# Altium schematic symbol library Supply.SchLib: 13 symbols
Pins are listed as number, name and electrical type; pins without a type are passive.

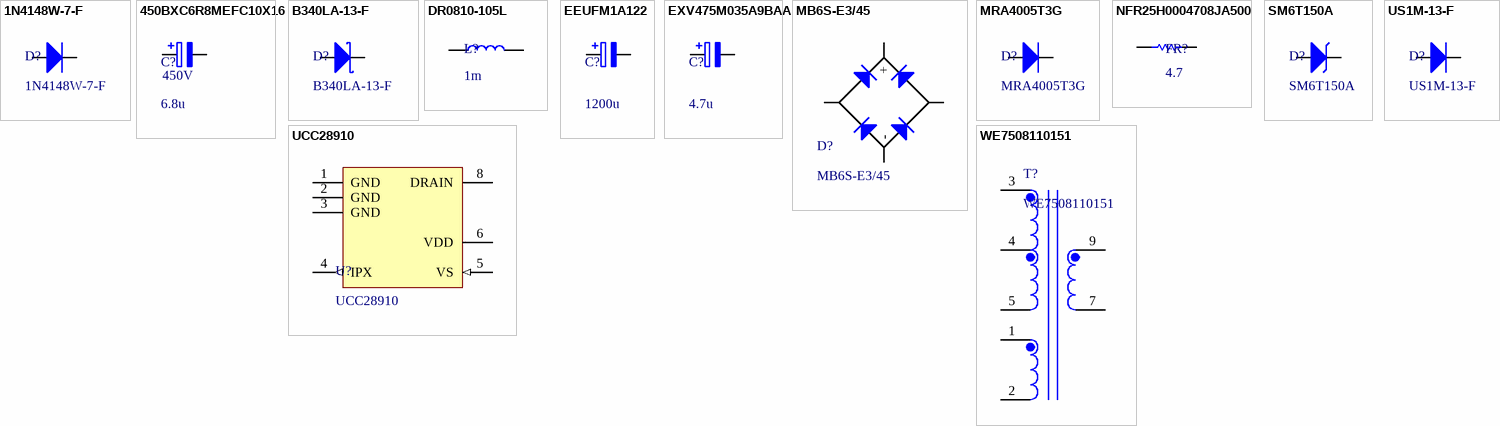
[diagram p0: symbols 1N4148W-7-F to WE7508110151]

## 1N4148W-7-F
designator D?
Diode - Standard, Switch, 1.25V, 300mA, 100V; Supplier 1: Farnell; Supplier Part Number 1: 1776392
footprint 1N4148W-7-F (Diode - Standard, Switch, 1.25V, 300mA, 100V)
pins: 1 A, 2 K

## 450BXC6R8MEFC10X16
designator C?, comment 6.8u  Rated Voltage: 450V
Capacitor - Electrolytic Capacitor, 6.8 uF, 450 V, 20%, 10 mm; Value: 6.8u; Supplier 1: Farnell; Supplier Part Number 1: 1831315
footprint 450BXC6R8MEFC10X16 (Capacitor - Electrolytic Capacitor, 6.8 uF, 450 V, 20%, 10 mm)
pins: 1, 2

## B340LA-13-F
designator D?
Diode - Schottky, 450mV, 3A, 40V; Supplier 1: Farnell; Supplier Part Number 1: 1843681
footprint B340LA-13-F (Diode - Schottky, 450mV, 3A, 40V)
pins: 1 A, 2 K

## DR0810-105L
designator L?, comment 1m
Inductor - Power, 1 mH, 0.5 A Sat. Current, 10%; Saturation current: 500mA; Value: 1m; Supplier 1: Farnell; Supplier Part Number 1: 2457618
footprint DR0810-105L (Inductor - Power, 1 mH, 0.5 A Sat. Current, 10%)
pins: 1, 2

## EEUFM1A122
designator C?, comment 1200u
Capacitor - Electrolytic Capacitor, 1200 uF, 10 V, 20%, 10 mm; Rated Voltage: 10V; Value: 1200u; Supplier 1: Farnell; Supplier Part Number 1: 1848381
footprint EEUFM1A122 (Capacitor - Electrolytic Capacitor, 1200 uF, 10 V, 20%, 10 mm)
pins: 1, 2

## EXV475M035A9BAA
designator C?, comment 4.7u
Capacitor - Electrolytic Capacitor, SMD, 4.7 uF, 35 V, 4 mm; Rated Voltage: 35V; Value: 4.7u; Supplier 1: Farnell; Supplier Part Number 1: 2069186
footprint EXV475M035A9BAA (Capacitor - Electrolytic Capacitor, SMD, 4.7 uF, 35 V, 4 mm)
pins: 1, 2

## MB6S-E3/45
designator D?
Diode - Bridge Rectifier, 600 V, 0.5 A; Supplier 1: Farnell; Supplier Part Number 1: 1815631
footprint MB6S-E3/45 (Diode - Bridge Rectifier, 600 V, 0.5 A)
pins: 1 AC, 2 AC, 3 +, 4 -

## MRA4005T3G
designator D?
Diode - Standard, 1.1V, 1A, 600V; Supplier 1: Farnell; Supplier Part Number 1: 1459136
footprint MRA4005T3G (Diode - Standard, 1.1V, 1A, 600V)
pins: 1 A, 2 K

## NFR25H0004708JA500
designator FR?, comment 4.7
Resistor - Fusible, Non-flammable Resistor; Power: 0.5 W; Value: 4.7; Supplier 1: Farnell; Supplier Part Number 1: 9474080
footprint NFR25H0004708JA500 (Resistor - Fusible, non-flammable resistor)
pins: 1, 2

## SM6T150A
designator D?
TVS - Unidirectional, 150V, 600W; Supplier 1: Farnell; Supplier Part Number 1: 9885889
footprint SM6T150A (TVS - Unidirectional, 150V, 600W)
pins: 1 A, 2 K

## UCC28910
designator U?
IC - SMPS Flyback, 700V Flyback Switcher with Constant-Voltage/Constant-Current and Primary-Side Control; Supplier 1: Digi-Key; Supplier Part Number 1: 296-37829-1-ND; Supplier 2: Farnell; Supplier Part Number 2: 2425775
footprint UCC28910 (IC - SMPS Flyback, 700V Flyback Switcher with Constant-Voltage/Constant-Current and Primary-Side Control)
pins: 1 GND (power), 2 GND (power), 3 GND (power), 4 IPX (out), 5 VS (in), 6 VDD (power), 8 DRAIN

## US1M-13-F
designator D?
Diode - Ultra-fast, 75 ns, 1.7V, 1A, 1000V; Supplier 1: Digi-Key; Supplier Part Number 1: US1M-FDICT-ND
footprint US1M-13-F (Diode - Ultra-fast, 75 ns, 1.7V, 1A, 1000V)
pins: 1 A, 2 K

## WE7508110151
designator T?
Transformer - Flyback/Offline Transformer; Supplier 1: Digi-Key; Supplier Part Number 1: 1297-1122-ND
footprint WE7508110151 (Transformer - Flyback/Offline Transformer)
pins: 1 Aux1, 2 Aux2, 3 Pri1, 4 Pri2, 5 Pri3, 7 Sec2, 9 Sec1